# Altium schematic symbol library SamacSys.SchLib: 13 symbols
Pins are listed as number, name and electrical type; pins without a type are passive.

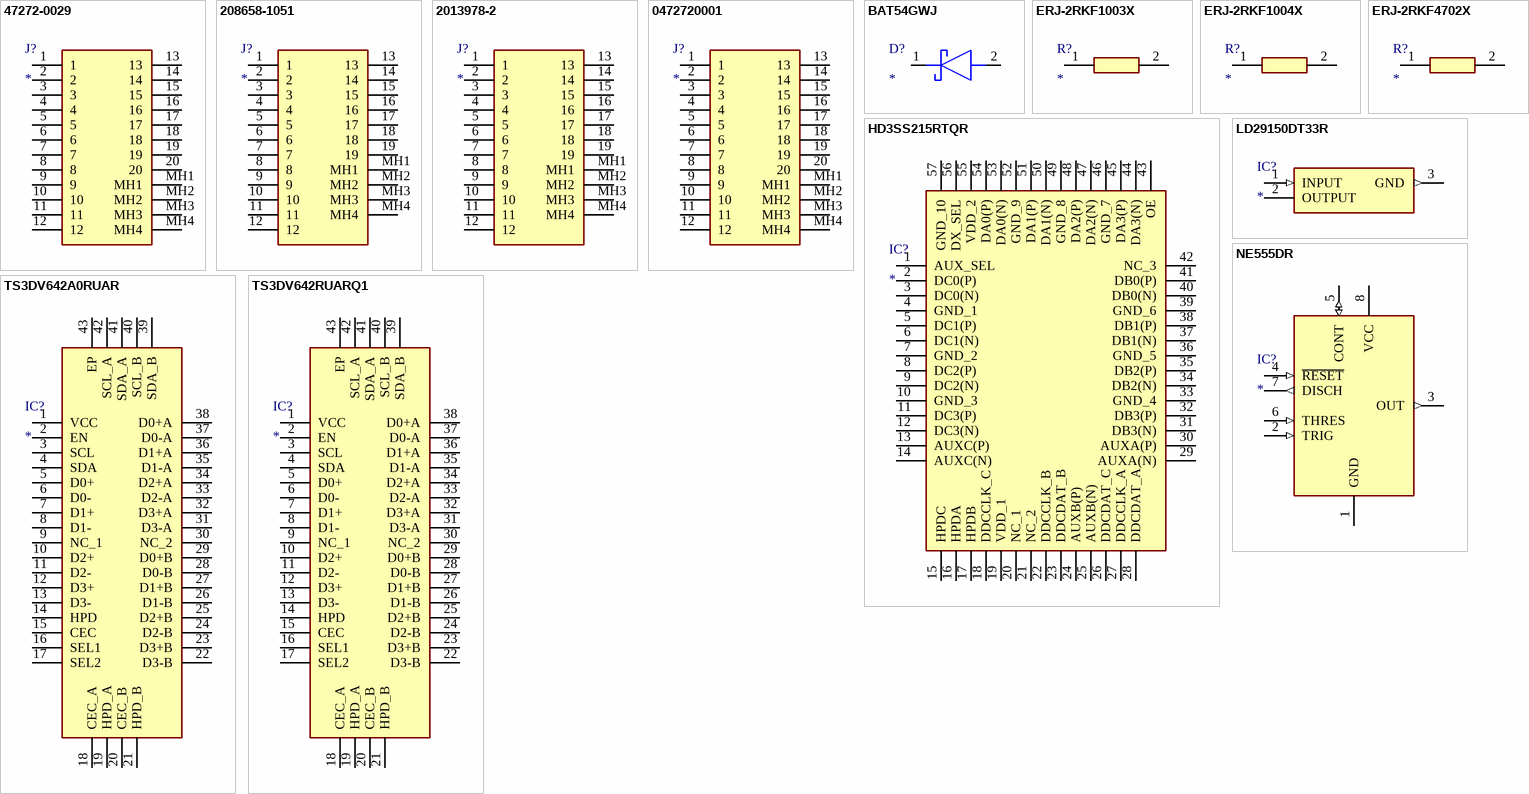
[diagram p0: symbols 47272-0029 to TS3DV642RUARQ1]

## 47272-0029
designator J?
Connector; Manufacturer_Name: Molex; Manufacturer_Part_Number: 47272-0029; Datasheet Link: https://www.molex.com/pdm_docs/sd/472720029_sd.pdf; Height: 6.9mm; Mouser Part Number: 538-47272-0029; Mouser Price/Stock: https://www.mouser.co.uk/ProductDetail/Molex/47272-0029?qs=R8Vl3J6srxyrbHtT7SkUeQ%3D%3D
footprint 472720029
pins: 1, 2, 3, 4, 5, 6, 7, 8, 9, 10, 11, 12, 13, 14, 15, 16, 17, 18, 19, 20, MH1, MH2, MH3, MH4

## 208658-1051
designator J?
Connector; Manufacturer_Name: Molex; Manufacturer_Part_Number: 208658-1051; Height: 6.44mm; Mouser Part Number: 538-208658-1051; Mouser Price/Stock: https://www.mouser.co.uk/ProductDetail/Molex/208658-1051?qs=BJlw7L4Cy7%252Bu27sIkZU3Xw%3D%3D; Arrow Part Number: 208658-1051; Arrow Price/Stock: https://www.arrow.com/en/products/2086581051/molex?region=nac
footprint 2086581051
pins: 1, 2, 3, 4, 5, 6, 7, 8, 9, 10, 11, 12, 13, 14, 15, 16, 17, 18, 19, MH1, MH2, MH3, MH4

## 2013978-2
designator J?
Connector; Manufacturer_Name: TE Connectivity; Manufacturer_Part_Number: 2013978-2; Datasheet Link: https://www.te.com/commerce/DocumentDelivery/DDEController?Action=srchrtrv&DocNm=6-1773453-4_HDMI_QRG&DocType=Data%20Sheet&DocLang=English&PartCntxt=2013978-2&DocFormat=pdf; Height: 3.45mm; Mouser Part Number: 571-2013978-2; Mouser Price/Stock: https://www.mouser.co.uk/ProductDetail/TE-Connectivity/2013978-2?qs=VfXS90KdVca5EZtMaZ%252BHeA%3D%3D; Arrow Part Number: 2013978-2; Arrow Price/Stock: https://www.arrow.com/en/products/2013978-2/te-connectivity?region=nac
footprint 20139782
pins: 1, 2, 3, 4, 5, 6, 7, 8, 9, 10, 11, 12, 13, 14, 15, 16, 17, 18, 19, MH1, MH2, MH3, MH4

## 0472720001
designator J?
Connector; Manufacturer_Name: Molex; Manufacturer_Part_Number: 0472720001; Datasheet Link: http://www.molex.com/pdm_docs/sd/472720001_sd.pdf; Height: 6.9mm; Mouser Part Number: N/A; Mouser Price/Stock: https://www.mouser.co.uk/ProductDetail/Molex/0472720001?qs=PBcRNPEHKsrarbeLf7n8sg%3D%3D; Arrow Part Number: 0472720001; Arrow Price/Stock: https://www.arrow.com/en/products/0472720001/molex?region=europe
footprint 0472720001
pins: 1, 2, 3, 4, 5, 6, 7, 8, 9, 10, 11, 12, 13, 14, 15, 16, 17, 18, 19, 20, MH1, MH2, MH3, MH4

## BAT54GWJ
designator D?
Schottky Diode; Manufacturer_Name: Nexperia; Manufacturer_Part_Number: BAT54GWJ; Description: Schottky Diodes & Rectifiers BL Bipolar Discretes; Datasheet Link: https://assets.nexperia.com/documents/data-sheet/BAT54GW.pdf; Mouser Part Number: 841-BAT54GWJ; Mouser Price/Stock: https://www.mouser.co.uk/ProductDetail/Nexperia/BAT54GWJ?qs=EO%252B2iqeaG03qzVr9l4ml1Q%3D%3D; Arrow Part Number: BAT54GWJ; Arrow Price/Stock: https://www.arrow.com/en/products/bat54gwj/nexperia?region=europe
footprint SOD123
pins: 1 K, 2 A

## ERJ-2RKF1003X
designator R?
Resistor; Manufacturer_Name: Panasonic; Manufacturer_Part_Number: ERJ-2RKF1003X; Datasheet Link: https://industrial.panasonic.com/cdbs/www-data/pdf/RDA0000/AOA0000C86.pdf; Height: 0.4mm; Mouser Part Number: 667-ERJ-2RKF1003X; Mouser Price/Stock: https://www.mouser.co.uk/ProductDetail/Panasonic/ERJ-2RKF1003X?qs=H7k1u0Mp9JQnXoBKdf15Qg%3D%3D; Arrow Part Number: ERJ-2RKF1003X; Arrow Price/Stock: https://www.arrow.com/en/products/erj-2rkf1003x/panasonic?region=europe
footprint ERJ2RKD1004X
pins: 1, 2

## ERJ-2RKF1004X
designator R?
Resistor; Manufacturer_Name: Panasonic; Manufacturer_Part_Number: ERJ-2RKF1004X; Datasheet Link: https://industrial.panasonic.com/cdbs/www-data/pdf/RDA0000/AOA0000C86.pdf; Height: 0.4mm; Mouser Part Number: 667-ERJ-2RKF1004X; Mouser Price/Stock: https://www.mouser.co.uk/ProductDetail/Panasonic/ERJ-2RKF1004X?qs=H7k1u0Mp9JTG%252BclS6LVdqw%3D%3D; Arrow Part Number: ERJ-2RKF1004X; Arrow Price/Stock: https://www.arrow.com/en/products/erj-2rkf1004x/panasonic?region=nac
footprint ERJ2RKD1004X
pins: 1, 2

## ERJ-2RKF4702X
designator R?
Resistor; Manufacturer_Name: Panasonic; Manufacturer_Part_Number: ERJ-2RKF4702X; Datasheet Link: https://industrial.panasonic.com/cdbs/www-data/pdf/RDA0000/AOA0000C86.pdf; Height: 0.4mm; Mouser Part Number: 667-ERJ-2RKF4702X; Mouser Price/Stock: https://www.mouser.co.uk/ProductDetail/Panasonic/ERJ-2RKF4702X?qs=YMBIwoNQYdXNvWEgS7s3Nw%3D%3D; Arrow Part Number: ERJ-2RKF4702X; Arrow Price/Stock: https://www.arrow.com/en/products/erj-2rkf4702x/panasonic?utm_currency=USD&region=europe
footprint ERJ2RKD1004X
pins: 1, 2

## HD3SS215RTQR
designator IC?
Integrated Circuit; Manufacturer_Name: Texas Instruments; Manufacturer_Part_Number: HD3SS215RTQR; Datasheet Link: http://www.ti.com/lit/gpn/hd3ss215; Height: 1mm; Mouser Part Number: 595-HD3SS215RTQR; Mouser Price/Stock: https://www.mouser.co.uk/ProductDetail/Texas-Instruments/HD3SS215RTQR?qs=7z%252BmIopC6%2FI%2F794hSmEgIA%3D%3D; Arrow Part Number: HD3SS215RTQR; Arrow Price/Stock: https://www.arrow.com/en/products/hd3ss215rtqr/texas-instruments?region=nac
footprint QFN50P800X800X100-57N-D
pins: 1 AUX_SEL, 2 DC0(P), 3 DC0(N), 4 GND_1, 5 DC1(P), 6 DC1(N), 7 GND_2, 8 DC2(P), 9 DC2(N), 10 GND_3, 11 DC3(P), 12 DC3(N), 13 AUXC(P), 14 AUXC(N), 15 HPDC, 16 HPDA, 17 HPDB, 18 DDCCLK_C, 19 VDD_1, 20 NC_1, 21 NC_2, 22 DDCCLK_B, 23 DDCDAT_B, 24 AUXB(P), 25 AUXB(N), 26 DDCDAT_C, 27 DDCCLK_A, 28 DDCDAT_A, 29 AUXA(N), 30 AUXA(P), 31 DB3(N), 32 DB3(P), 33 GND_4, 34 DB2(N), 35 DB2(P), 36 GND_5, 37 DB1(N), 38 DB1(P), 39 GND_6, 40 DB0(N), 41 DB0(P), 42 NC_3, 43 OE, 44 DA3(N), 45 DA3(P), 46 GND_7, 47 DA2(N), 48 DA2(P), 49 GND_8, 50 DA1(N), 51 DA1(P), 52 GND_9, 53 DA0(N), 54 DA0(P), 55 VDD_2, 56 DX_SEL, 57 GND_10

## LD29150DT33R
designator IC?
Integrated Circuit; Manufacturer_Name: STMicroelectronics; Manufacturer_Part_Number: LD29150DT33R; Description: STMicroelectronics LD29150DT33R; Datasheet Link: http://www.st.com/web/en/resource/technical/document/datasheet/CD00003403.pdf; Mouser Part Number: 511-LD29150DT33R; Mouser Price/Stock: https://www.mouser.co.uk/ProductDetail/STMicroelectronics/LD29150DT33R?qs=M4RLcaOHglr1iYLz8rxZ4g%3D%3D; Arrow Part Number: LD29150DT33R; Arrow Price/Stock: https://www.arrow.com/en/products/ld29150dt33r/stmicroelectronics?region=nac
footprint ST_DPAK_1
pins: 1 INPUT (in), 2 OUTPUT, 3 GND (out)

## NE555DR
designator IC?
Integrated Circuit; Manufacturer_Name: Texas Instruments; Manufacturer_Part_Number: NE555DR; Datasheet Link: http://www.ti.com/lit/ds/symlink/ne555.pdf; Height: 1.75mm; Mouser Part Number: 595-NE555DR; Mouser Price/Stock: https://www.mouser.com/Search/Refine.aspx?Keyword=595-NE555DR; RS Part Number: 1218414; RS Price/Stock: http://uk.rs-online.com/web/p/products/1218414
footprint SOIC127P600X175-8N
pins: 1 GND (power), 2 TRIG (in), 3 OUT (out), 4 ~{RESET} (in), 5 CONT (io), 6 THRES (in), 7 DISCH (out), 8 VCC (power)

## TS3DV642A0RUAR
designator IC?
Integrated Circuit; Manufacturer_Name: Texas Instruments; Manufacturer_Part_Number: TS3DV642A0RUAR; Datasheet Link: http://www.ti.com/lit/gpn/ts3dv642; Height: 0.8mm; Mouser Part Number: 595-TS3DV642A0RUAR; Mouser Price/Stock: https://www.mouser.co.uk/ProductDetail/Texas-Instruments/TS3DV642A0RUAR?qs=zjX5mX%252BjEMCTQjtLUY3z%2FA%3D%3D; Arrow Part Number: TS3DV642A0RUAR; Arrow Price/Stock: https://www.arrow.com/en/products/ts3dv642a0ruar/texas-instruments?region=nac
footprint QFN50P350X900X80-43N-D
pins: 1 VCC, 2 EN, 3 SCL, 4 SDA, 5 D0+, 6 D0-, 7 D1+, 8 D1-, 9 NC_1, 10 D2+, 11 D2-, 12 D3+, 13 D3-, 14 HPD, 15 CEC, 16 SEL1, 17 SEL2, 18 CEC_A, 19 HPD_A, 20 CEC_B, 21 HPD_B, 22 D3-B, 23 D3+B, 24 D2-B, 25 D2+B, 26 D1-B, 27 D1+B, 28 D0-B, 29 D0+B, 30 NC_2, 31 D3-A, 32 D3+A, 33 D2-A, 34 D2+A, 35 D1-A, 36 D1+A, 37 D0-A, 38 D0+A, 39 SDA_B, 40 SCL_B, 41 SDA_A, 42 SCL_A, 43 EP

## TS3DV642RUARQ1
designator IC?
Integrated Circuit; Manufacturer_Name: Texas Instruments; Manufacturer_Part_Number: TS3DV642RUARQ1; Datasheet Link: https://www.ti.com/lit/ds/symlink/ts3dv642-q1.pdf?ts=1627450105142&ref_url=https%253A%252F%252Fwww.ti.com%252Fproduct%252FTS3DV642-Q1; Height: 0.8mm; Mouser Part Number: 595-TS3DV642RUARQ1; Mouser Price/Stock: https://www.mouser.co.uk/ProductDetail/Texas-Instruments/TS3DV642RUARQ1?qs=QNEnbhJQKvYwIRf3TQHTAg%3D%3D; Arrow Part Number: TS3DV642RUARQ1; Arrow Price/Stock: null?utm_currency=USD&region=nac
footprint QFN50P350X900X80-43N-D
pins: 1 VCC, 2 EN, 3 SCL, 4 SDA, 5 D0+, 6 D0-, 7 D1+, 8 D1-, 9 NC_1, 10 D2+, 11 D2-, 12 D3+, 13 D3-, 14 HPD, 15 CEC, 16 SEL1, 17 SEL2, 18 CEC_A, 19 HPD_A, 20 CEC_B, 21 HPD_B, 22 D3-B, 23 D3+B, 24 D2-B, 25 D2+B, 26 D1-B, 27 D1+B, 28 D0-B, 29 D0+B, 30 NC_2, 31 D3-A, 32 D3+A, 33 D2-A, 34 D2+A, 35 D1-A, 36 D1+A, 37 D0-A, 38 D0+A, 39 SDA_B, 40 SCL_B, 41 SDA_A, 42 SCL_A, 43 EP